# Altium footprint library myLib.PcbLib: 111 footprints (part 6 of 7)
Each footprint in its own frame and in the unit in brackets; x right, y up, seen from the top. Pads: shape width x height; smd on the part's side, far side on the other; paste and mask are expansions set on the pad; w line width, h text height; cw(c..) or ccw(c..) is an arc to the next point about the centre after c.
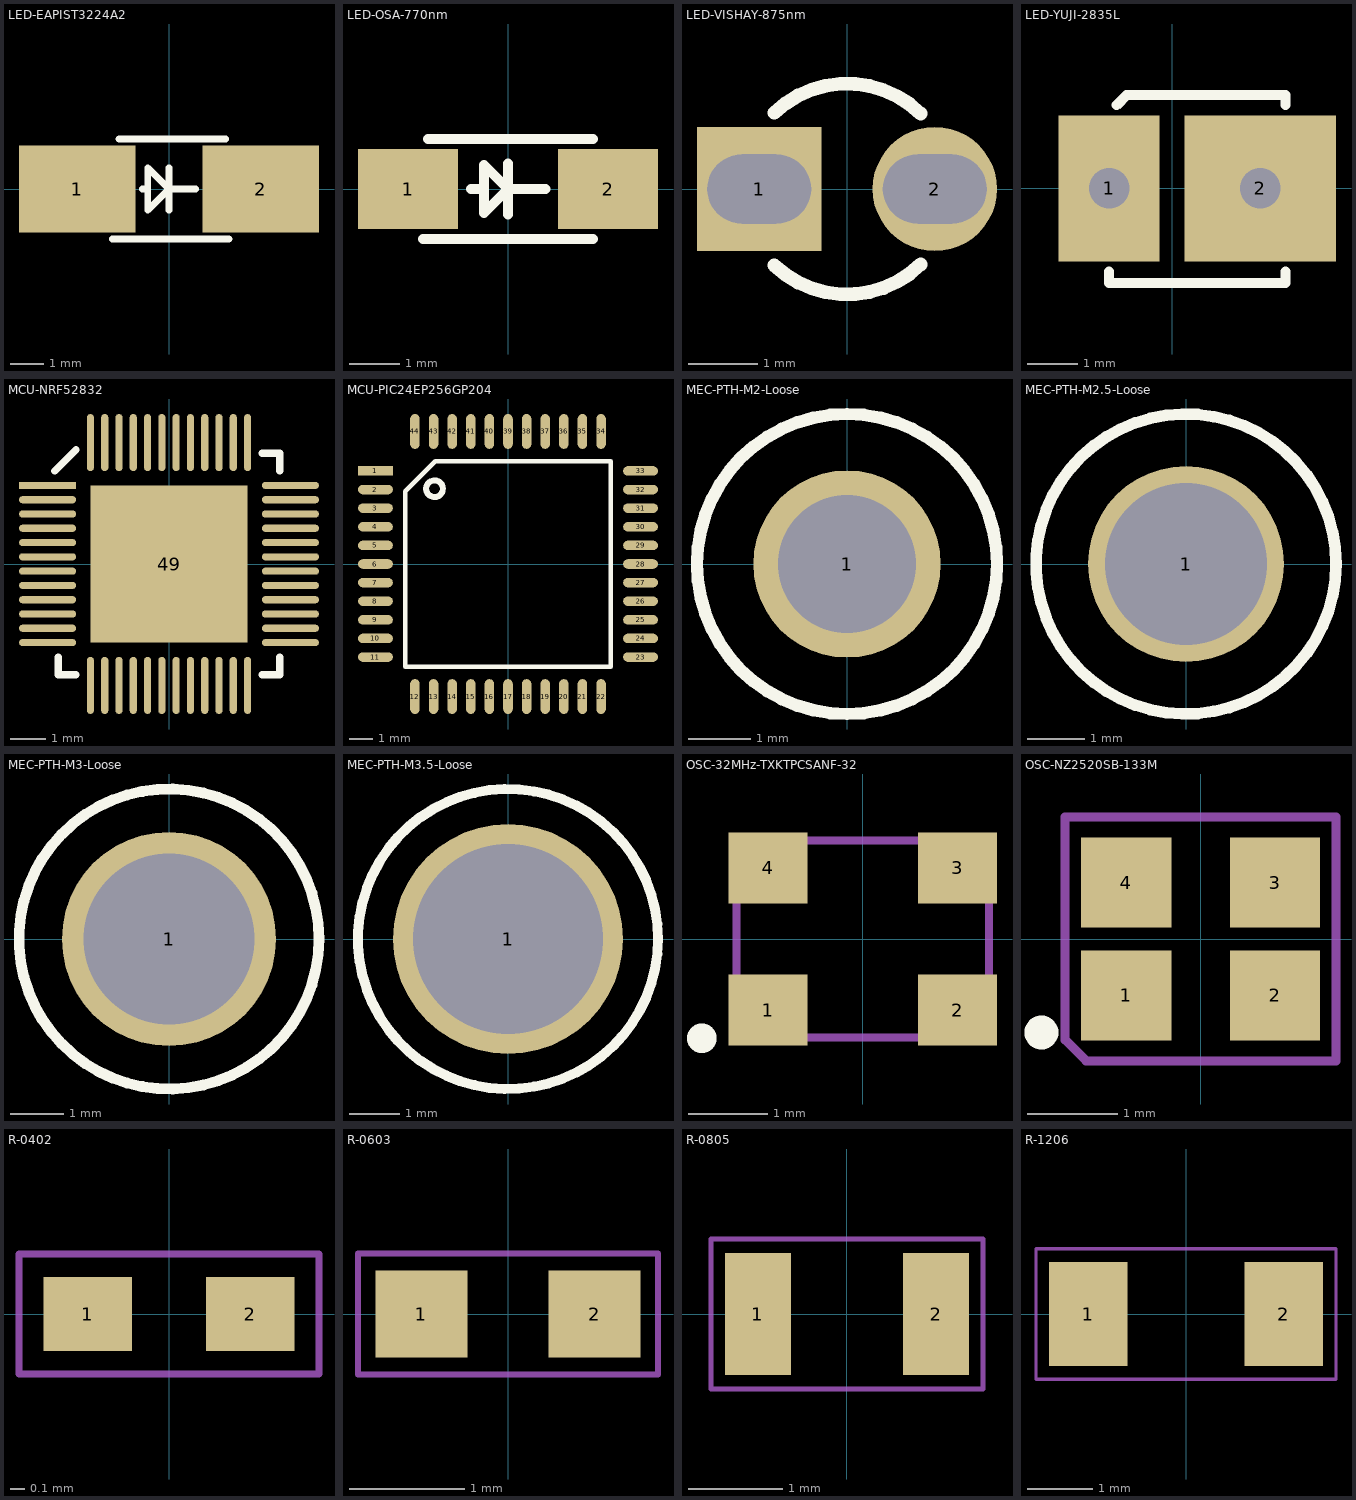
[diagram p5: the footprints below, top view; thin cyan lines are the x and y axes]

## LED-EAPIST3224A2 [mm] "730nm LED (EAPIST3224A2)"
pads (2):
  rect 3.5x2.6 smd: 1(-2.75,0) 2(2.75,0)
Top Overlay:
  lines w0.2: -1.7,-1.5 1.8,-1.5 ; -1.5,1.5 1.7,1.5 ; -0.8,0 -0.635,0 ; 0,-0.635 0,0.635 ; 0.8,0 0,0 ; 0,0 -0.635,-0.635 -0.635,0.635 0,0

## LED-OSA-770nm [mm] "(OSA OIS 330 770)"
pads (2):
  rect 2x1.6 smd: 1(-2,0) 2(2,0)
Top Overlay:
  lines w0.2: -1.7,-1 1.7,-1 ; -1.6,1 1.7,1 ; -0.737,0 -0.483,0 ; 0,-0.508 0,0.508 ; 0.75,0 0,0 ; 0,0 -0.483,-0.483 -0.483,0.483 0,0

## LED-VISHAY-875nm [mm] "(TSHA4400, TSHA4401)"
pads (2):
  rect 1.8x1.8 hole 1 slot 1.5 at 0 deg: 1(-1.27,0)
  round 1.8 hole 1 slot 1.5 at 0 deg: 2(1.27,0)
Top Overlay:
  lines w0.2: -1.054,-1.103 ccw(c0,0) 1.066,-1.091 ; -1.052,1.104 cw(c0,0) 1.066,1.091

## LED-YUJI-2835L [mm] "BC Series High CRI LED SMD (2835L)"
pads (2):
  rect 2x2.9 hole 0.8: 1(-1.25,0)
  rect 3x2.9 hole 0.8: 2(1.75,0)
Top Overlay:
  lines w0.2: -1.25,-1.65 -1.25,-1.875 2.25,-1.875 2.25,-1.65 ; -1.1,1.65 -0.9,1.85 2.25,1.85 2.25,1.65

## MCU-NRF52832 [mm] "NRF52832 BLE ARM SoC"
pads (49):
  rect 1.6x0.2 smd: 1(-3.4,2.2)
  oval 1.6x0.2 smd: 2(-3.4,1.8) 3(-3.4,1.4) 4(-3.4,1) 5(-3.4,0.6) 6(-3.4,0.2) 7(-3.4,-0.2) 8(-3.4,-0.6) 9(-3.4,-1) 10(-3.4,-1.4) 11(-3.4,-1.8) 12(-3.4,-2.2) 25(3.4,-2.2) 26(3.4,-1.8) 27(3.4,-1.4) 28(3.4,-1) 29(3.4,-0.6) 30(3.4,-0.2) 31(3.4,0.2) 32(3.4,0.6) 33(3.4,1) 34(3.4,1.4) 35(3.4,1.8) 36(3.4,2.2)
  oval 0.2x1.6 smd: 13(-2.2,-3.4) 14(-1.8,-3.4) 15(-1.4,-3.4) 16(-1,-3.4) 17(-0.6,-3.4) 18(-0.2,-3.4) 19(0.2,-3.4) 20(0.6,-3.4) 21(1,-3.4) 22(1.4,-3.4) 23(1.8,-3.4) 24(2.2,-3.4) 37(2.2,3.4) 38(1.8,3.4) 39(1.4,3.4) 40(1,3.4) 41(0.6,3.4) 42(0.2,3.4) 43(-0.2,3.4) 44(-0.6,3.4) 45(-1,3.4) 46(-1.4,3.4) 47(-1.8,3.4) 48(-2.2,3.4)
  rect 4.4x4.4 smd: 49(0,0)
Top Overlay:
  lines w0.2: -3.2,2.6 -2.6,3.2 ; -3.1,-2.6 -3.1,-3.1 ; -3.099,-3.099 -3.1,-3.1 ; -2.6,-3.1 -3.1,-3.1 ; 2.6,-3.1 3.1,-3.1 3.1,-2.6 ; 2.6,3.1 3.1,3.1 3.1,2.6

## MCU-PIC24EP256GP204 [mm] "PIC24EPGP214 16-Bit, TQFP"
pads (44):
  rect 1.5x0.41 smd: 1(-5.7,4)
  oval 1.5x0.41 smd: 2(-5.7,3.2) 3(-5.7,2.4) 4(-5.7,1.6) 5(-5.7,0.8) 6(-5.7,0) 7(-5.7,-0.8) 8(-5.7,-1.6) 9(-5.7,-2.4) 10(-5.7,-3.2) 11(-5.7,-4) 23(5.7,-4) 24(5.7,-3.2) 25(5.7,-2.4) 26(5.7,-1.6) 27(5.7,-0.8) 28(5.7,0) 29(5.7,0.8) 30(5.7,1.6) 31(5.7,2.4) 32(5.7,3.2) 33(5.7,4)
  oval 0.41x1.5 smd: 12(-4,-5.7) 13(-3.2,-5.7) 14(-2.4,-5.7) 15(-1.6,-5.7) 16(-0.8,-5.7) 17(0,-5.7) 18(0.8,-5.7) 19(1.6,-5.7) 20(2.4,-5.7) 21(3.2,-5.7) 22(4,-5.7) 34(4,5.7) 35(3.2,5.7) 36(2.4,5.7) 37(1.6,5.7) 38(0.8,5.7) 39(0,5.7) 40(-0.8,5.7) 41(-1.6,5.7) 42(-2.4,5.7) 43(-3.2,5.7) 44(-4,5.7)
Top Overlay:
  circle w0.254: c-3.16,3.238 r0.359
  lines w0.2: -4.415,-4.415 -4.415,3.13 -3.13,4.415 4.415,4.415 4.415,-4.415 -4.415,-4.415

## MEC-PTH-M2-Loose [mm] "Mounting Hole, PTH, Pan Head, Loose Fit"
pads (1):
  round 3 hole 2.2: 1(0,0)
Top Overlay:
  circle w0.2: c0,0 r2.4

## MEC-PTH-M2.5-Loose [mm] "Mounting Hole, PTH, Pan Head, Loose Fit"
pads (1):
  round 3.4 hole 2.8: 1(0,0)
Top Overlay:
  circle w0.2: c0,0 r2.6

## MEC-PTH-M3-Loose [mm] "Mounting Hole, PTH, Pan Head, Loose Fit"
pads (1):
  round 4 hole 3.2: 1(0,0)
Top Overlay:
  circle w0.2: c0,0 r2.8

## MEC-PTH-M3.5-Loose [mm] "Mounting Hole, PTH, Pan Head, Loose Fit"
pads (1):
  round 4.6 hole 3.8: 1(0,0)
Top Overlay:
  circle w0.2: c0,0 r3

## OSC-32MHz-TXKTPCSANF-32 [mm] "Crystall Oscillator, 32MHz"
pads (4):
  rect 1x0.9 smd: 1(-1.2,-0.9) 2(1.2,-0.9) 3(1.2,0.9) 4(-1.2,0.9)
Top Overlay:
  circle w0.254: c-2.041,-1.258 r0.06
Drawing:
  lines w0.1: -1.6,-0.891 -1.6,1.25 1.6,1.25 1.6,-1.25 -1.241,-1.25 -1.6,-0.891

## OSC-NZ2520SB-133M [mm] "Crystall Oscillator, 133MHz"
pads (4):
  rect 1x1 smd: 1(-0.825,-0.625) 2(0.825,-0.625) 3(0.825,0.625) 4(-0.825,0.625)
Top Overlay:
  circle w0.254: c-1.763,-1.036 r0.06
Drawing:
  lines w0.1: -1.5,-1.117 -1.5,1.35 1.5,1.35 1.5,-1.35 -1.267,-1.35 -1.5,-1.117

## R-0402 [mm] "Resistor, Generic, 0402"
pads (2):
  rect 0.6x0.5 smd: 1(-0.55,0) 2(0.55,0)
Drawing:
  lines w0.05: -1.016,-0.406 -1.016,0.406 1.016,0.406 1.016,-0.406 -1.016,-0.406

## R-0603 [mm] "Resistor, Generic, 0603"
pads (2):
  rect 0.8x0.75 smd: 1(-0.75,0) 2(0.75,0)
Drawing:
  lines w0.05: -1.3,-0.525 1.3,-0.525 1.3,0.525 -1.3,0.525 -1.3,-0.525

## R-0805 [mm] "Resistor, Generic, 0805"
pads (2):
  rect 0.7x1.3 smd: 1(-0.95,0) 2(0.95,0)
Drawing:
  lines w0.05: -1.45,-0.8 -1.45,0.8 1.45,0.8 1.45,-0.8 -1.45,-0.8

## R-1206 [mm] "Resistor, Generic, 1206"
pads (2):
  rect 1.2x1.6 smd: 1(-1.5,0) 2(1.5,0)
Drawing:
  lines w0.05: -2.3,-1 2.3,-1 2.3,1 -2.3,1 -2.3,-1